# EAGLE library part ADG712 (library Traficon)
Quad SPST analog switches Normal Open
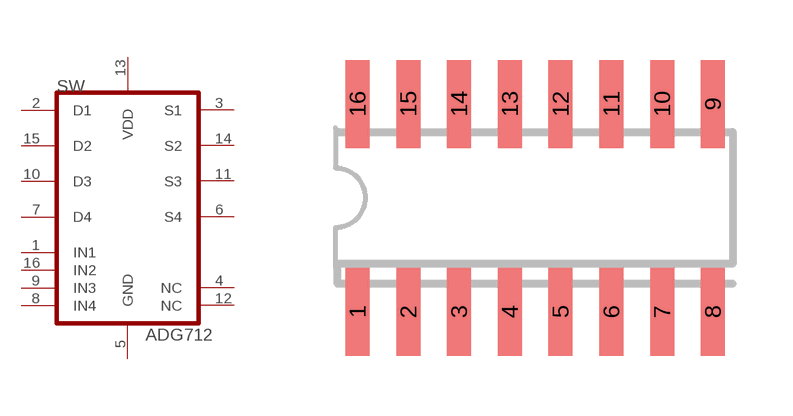
[diagram p62: symbol with the pads of SOIC16N; footprint SOIC16N]

Designator prefix SW

## ADG712BRZ  [SOIC16N]
1  IN1
2  D1
3  S1
4  NC  nc
5  GND
6  S4
7  D4
8  IN4
9  IN3
10  D3
11  S3
12  NC  nc
13  VDD
14  S2
15  D2
16  IN2

## Footprint SOIC16N (pad centres in mm)
SMALL OUTLINE INTEGRATED CIRCUIT
smd 0.6 x 2.2: 1 -4.445,-2.6; 2 -3.175,-2.6; 3 -1.905,-2.6; 4 -0.635,-2.6; 5 0.635,-2.6; 6 1.905,-2.6; 7 3.175,-2.6; 8 4.445,-2.6; 9 4.445,2.6; 10 3.175,2.6; 11 1.905,2.6; 12 0.635,2.6; 13 -0.635,2.6; 14 -1.905,2.6; 15 -3.175,2.6; 16 -4.445,2.6